# EAGLE library part BOOSTER-DRV8711 (library texas-boosterpack)
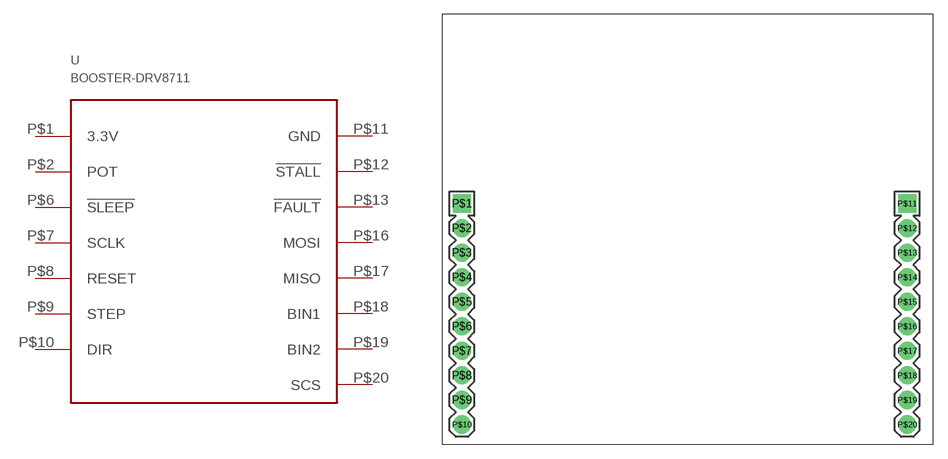
[diagram p3: symbol with the pads of BOOSTER-DRV8711; footprint BOOSTER-DRV8711]

Designator prefix -

## BOOSTER-DRV8711  [BOOSTER-DRV8711]
P$1  3.3V
P$2  POT
P$6  !SLEEP
P$7  SCLK
P$8  RESET
P$9  STEP
P$10  DIR
P$11  GND
P$12  !STALL
P$13  !FAULT
P$16  MOSI
P$17  MISO
P$18  BIN1
P$19  BIN2
P$20  SCS

## Footprint BOOSTER-DRV8711 (pad centres in mm)
drill 1.016 pad 1.88 square: P$1 2.032,24.892; P$11 48.133,24.892
drill 1.016 pad 1.88: P$2 2.032,22.352; P$3 2.032,19.812; P$4 2.032,17.272; P$5 2.032,14.732; P$6 2.032,12.192; P$7 2.032,9.652; P$8 2.032,7.112; P$9 2.032,4.572; P$10 2.032,2.032; P$12 48.133,22.352; P$13 48.133,19.812; P$14 48.133,17.272; P$15 48.133,14.732; P$16 48.133,12.192; P$17 48.133,9.652; P$18 48.133,7.112; P$19 48.133,4.572; P$20 48.133,2.032